# Altium schematic symbol library STM32G431C6T6.SchLib: 1 symbol
Pins are listed as number, name and electrical type; pins without a type are passive.

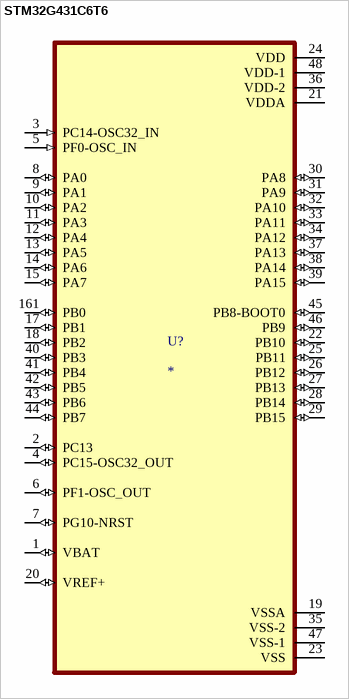
[diagram p0: symbol STM32G431C6T6]

## STM32G431C6T6
designator U?
MF: {'manufacturer': u'STMicroelectronics'}; MP: STM32G431C6T6; Package: None; Price: None; Value: *; Availability: Unavailable
footprint QFP50P900X900X160-48N
pins: 1 VBAT (io), 2 PC13 (io), 3 PC14-OSC32_IN (in), 4 PC15-OSC32_OUT (io), 5 PF0-OSC_IN (in), 6 PF1-OSC_OUT (io), 7 PG10-NRST (io), 8 PA0 (io), 9 PA1 (io), 10 PA2 (io), 11 PA3 (io), 12 PA4 (io), 13 PA5 (io), 14 PA6 (io), 15 PA7 (io), 17 PB1 (io), 18 PB2 (io), 19 VSSA (power), 20 VREF+ (io), 21 VDDA (power), 22 PB10 (io), 23 VSS (power), 24 VDD (power), 25 PB11 (io), 26 PB12 (io), 27 PB13 (io), 28 PB14 (io), 29 PB15 (io), 30 PA8 (io), 31 PA9 (io), 32 PA10 (io), 33 PA11 (io), 34 PA12 (io), 35 VSS-2 (power), 36 VDD-2 (power), 37 PA13 (io), 38 PA14 (io), 39 PA15 (io), 40 PB3 (io), 41 PB4 (io), 42 PB5 (io), 43 PB6 (io), 44 PB7 (io), 45 PB8-BOOT0 (io), 46 PB9 (io), 47 VSS-1 (power), 48 VDD-1 (power), 161 PB0 (io)